# EAGLE library part IRF7301 (library irf7301_symb)
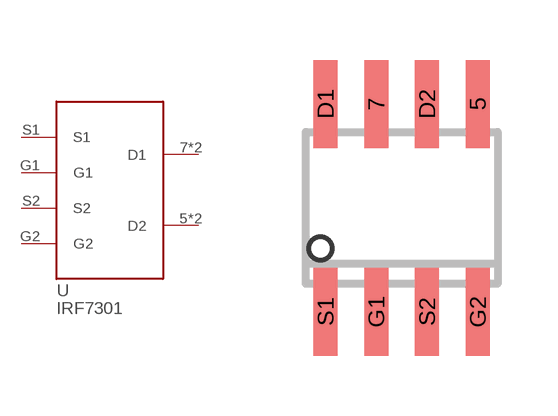
[diagram p0: symbol with the pads of IRF7301_PACK_SO8; footprint IRF7301_PACK_SO8]

Designator prefix -

## IRF7301  [IRF7301_PACK_SO8]
5  D2
7  D1
D1  D1
D2  D2
G1  G1
G2  G2
S1  S1
S2  S2

## Footprint IRF7301_PACK_SO8 (pad centres in mm)
smd 0.6 x 2.2: 5 1.905,2.6; 7 -0.635,2.6; D1 -1.905,2.6; D2 0.635,2.6; G1 -0.635,-2.6; G2 1.905,-2.6; S1 -1.905,-2.6; S2 0.635,-2.6